# Altium footprint library OLED.PcbLib: 1 footprints
Each footprint in its own frame and in the unit in brackets; x right, y up, seen from the top. Pads: shape width x height; smd on the part's side, far side on the other; paste and mask are expansions set on the pad; w line width, h text height; cw(c..) or ccw(c..) is an arc to the next point about the centre after c.
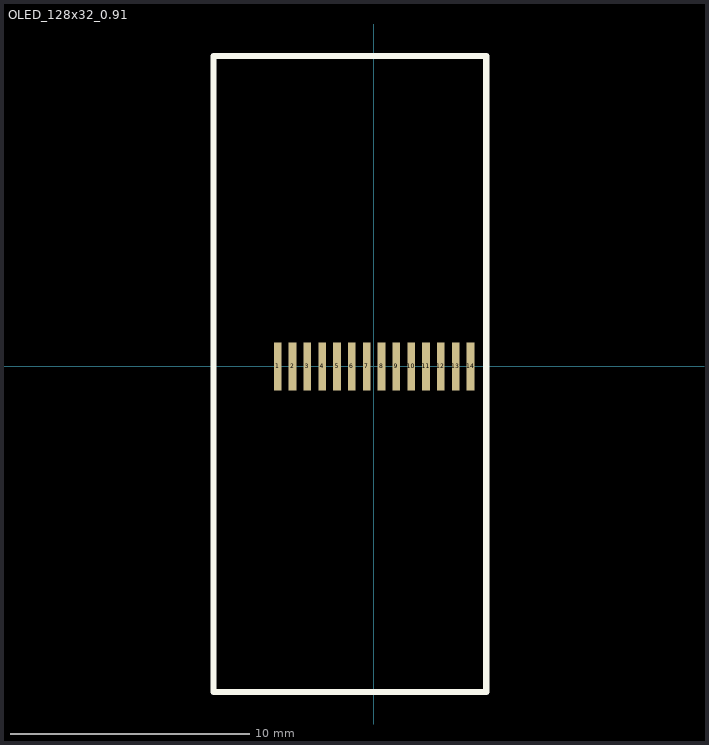
[diagram p0: the footprint, top view; thin cyan lines are the x and y axes]

## OLED_128x32_0.91 [mm]
height 1.1
pads (14):
  rect 0.32x2 smd: 1(-4.019,0) 2(-3.399,0) 3(-2.779,0) 4(-2.159,0) 5(-1.539,0) 6(-0.919,0) 7(-0.299,0) 8(0.321,0) 9(0.941,0) 10(1.561,0) 11(2.181,0) 12(2.801,0) 13(3.421,0) 14(4.041,0)
Top Overlay:
  lines w0.254: -6.701,-13.616 4.699,-13.616 4.699,12.984 -6.701,12.984 -6.701,-13.616
3D body "OLED.STEP": height 1.2, standoff 0, extent -6.766,-13.554 4.734,13.046